# Altium schematic symbol library SCH - POWER - SWITCHMODE - TI TPS65580PWP.SchLib: 1 symbol
Pins are listed as number, name and electrical type; pins without a type are passive.

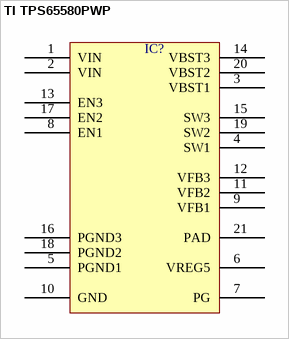
[diagram p0: symbol TI TPS65580PWP]

## TI TPS65580PWP
designator IC?  (value not drawn)
pins: 1 VIN, 2 VIN, 3 VBST1, 4 SW1, 5 PGND1, 6 VREG5, 7 PG, 8 EN1, 9 VFB1, 10 GND, 11 VFB2, 12 VFB3, 13 EN3, 14 VBST3, 15 SW3, 16 PGND3, 17 EN2, 18 PGND2, 19 SW2, 20 VBST2, 21 PAD